# Altium schematic symbol library STM32H743II.SchLib: 1 symbol
Pins are listed as number, name and electrical type; pins without a type are passive.

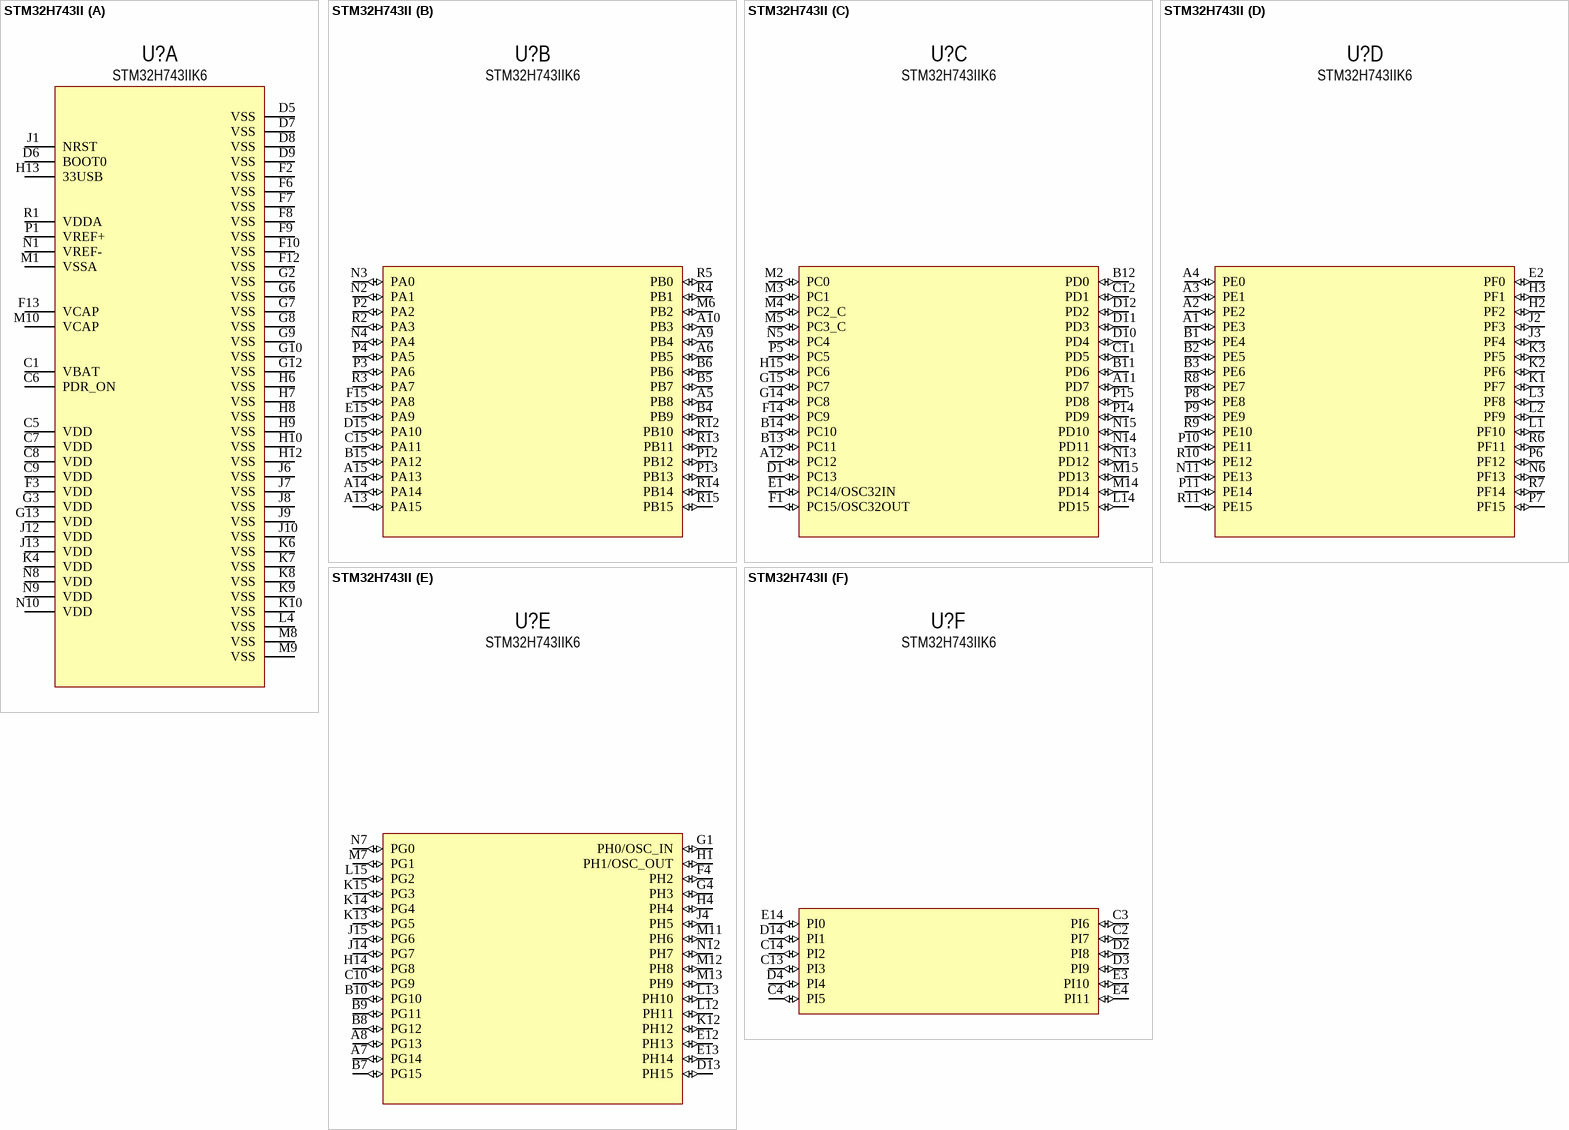
[diagram p0: symbol STM32H743II]

## STM32H743II
designator U?, comment STM32H743IIK6
High-performance and DSP with DP-FPU, Arm Cortex-M7 MCU with 2MBytes of Flash memory, 1MB RAM, 480 MHz CPU, Art Accelerator, L1 cache, external memory interface, large set of peripherals; Потребление, Вт: 1; Назначение: Arm Cortex-M7 MCU; DataSheet: https://www.st.com/resource/en/datasheet/stm32h743ii.pdf; RefMan: https://www.st.com/resource/en/reference_manual/rm0433-stm32h742-stm32h743753-and-stm32h750-value-line-advanced-armbased-32bit-mcus-stmicroelectronics.pdf; Наименование: STM32H743IIK6
footprint UFBGA176+25
part A pins: C1 VBAT, C5 VDD, C6 PDR_ON, C7 VDD, C8 VDD, C9 VDD, D5 VSS, D6 BOOT0, D7 VSS, D8 VSS, D9 VSS, F2 VSS, F3 VDD, F6 VSS, F7 VSS, F8 VSS, F9 VSS, F10 VSS, F12 VSS, F13 VCAP, G2 VSS, G3 VDD, G6 VSS, G7 VSS, G8 VSS, G9 VSS, G10 VSS, G12 VSS, G13 VDD, H6 VSS, H7 VSS, H8 VSS, H9 VSS, H10 VSS, H12 VSS, H13 33USB, J1 NRST, J6 VSS, J7 VSS, J8 VSS, J9 VSS, J10 VSS, J12 VDD, J13 VDD, K4 VDD, K6 VSS, K7 VSS, K8 VSS, K9 VSS, K10 VSS, L4 VSS, M1 VSSA, M8 VSS, M9 VSS, M10 VCAP, N1 VREF-, N8 VDD, N9 VDD, N10 VDD, P1 VREF+, R1 VDDA
part B pins: A5 PB8 (io), A6 PB5 (io), A9 PB4 (io), A10 PB3 (io), A13 PA15 (io), A14 PA14 (io), A15 PA13 (io), B4 PB9 (io), B5 PB7 (io), B6 PB6 (io), B15 PA12 (io), C15 PA11 (io), D15 PA10 (io), E15 PA9 (io), F15 PA8 (io), M6 PB2 (io), N2 PA1 (io), N3 PA0 (io), N4 PA4 (io), P2 PA2 (io), P3 PA6 (io), P4 PA5 (io), P12 PB12 (io), P13 PB13 (io), R2 PA3 (io), R3 PA7 (io), R4 PB1 (io), R5 PB0 (io), R12 PB10 (io), R13 PB11 (io), R14 PB14 (io), R15 PB15 (io)
part C pins: A11 PD7 (io), A12 PC12 (io), B11 PD6 (io), B12 PD0 (io), B13 PC11 (io), B14 PC10 (io), C11 PD5 (io), C12 PD1 (io), D1 PC13 (io), D10 PD4 (io), D11 PD3 (io), D12 PD2 (io), E1 PC14/OSC32IN (io), F1 PC15/OSC32OUT (io), F14 PC9 (io), G14 PC8 (io), G15 PC7 (io), H15 PC6 (io), L14 PD15 (io), M2 PC0 (io), M3 PC1 (io), M4 PC2_C (io), M5 PC3_C (io), M14 PD14 (io), M15 PD13 (io), N5 PC4 (io), N13 PD12 (io), N14 PD11 (io), N15 PD10 (io), P5 PC5 (io), P14 PD9 (io), P15 PD8 (io)
part D pins: A1 PE3 (io), A2 PE2 (io), A3 PE1 (io), A4 PE0 (io), B1 PE4 (io), B2 PE5 (io), B3 PE6 (io), E2 PF0 (io), H2 PF2 (io), H3 PF1 (io), J2 PF3 (io), J3 PF4 (io), K1 PF7 (io), K2 PF6 (io), K3 PF5 (io), L1 PF10 (io), L2 PF9 (io), L3 PF8 (io), N6 PF13 (io), N11 PE13 (io), P6 PF12 (io), P7 PF15 (io), P8 PE8 (io), P9 PE9 (io), P10 PE11 (io), P11 PE14 (io), R6 PF11 (io), R7 PF14 (io), R8 PE7 (io), R9 PE10 (io), R10 PE12 (io), R11 PE15 (io)
part E pins: A7 PG14 (io), A8 PG13 (io), B7 PG15 (io), B8 PG12 (io), B9 PG11 (io), B10 PG10 (io), C10 PG9 (io), D13 PH15 (io), E12 PH13 (io), E13 PH14 (io), F4 PH2 (io), G1 PH0/OSC_IN (io), G4 PH3 (io), H1 PH1/OSC_OUT (io), H4 PH4 (io), H14 PG8 (io), J4 PH5 (io), J14 PG7 (io), J15 PG6 (io), K12 PH12 (io), K13 PG5 (io), K14 PG4 (io), K15 PG3 (io), L12 PH11 (io), L13 PH10 (io), L15 PG2 (io), M7 PG1 (io), M11 PH6 (io), M12 PH8 (io), M13 PH9 (io), N7 PG0 (io), N12 PH7 (io)
part F pins: C2 PI7 (io), C3 PI6 (io), C4 PI5 (io), C13 PI3 (io), C14 PI2 (io), D2 PI8 (io), D3 PI9 (io), D4 PI4 (io), D14 PI1 (io), E3 PI10 (io), E4 PI11 (io), E14 PI0 (io)